# Altium integrated library Seeed-OPL-crystal-osctllator.IntLib: 61 symbols
Pins are listed as number, name and electrical type; pins without a type are passive.

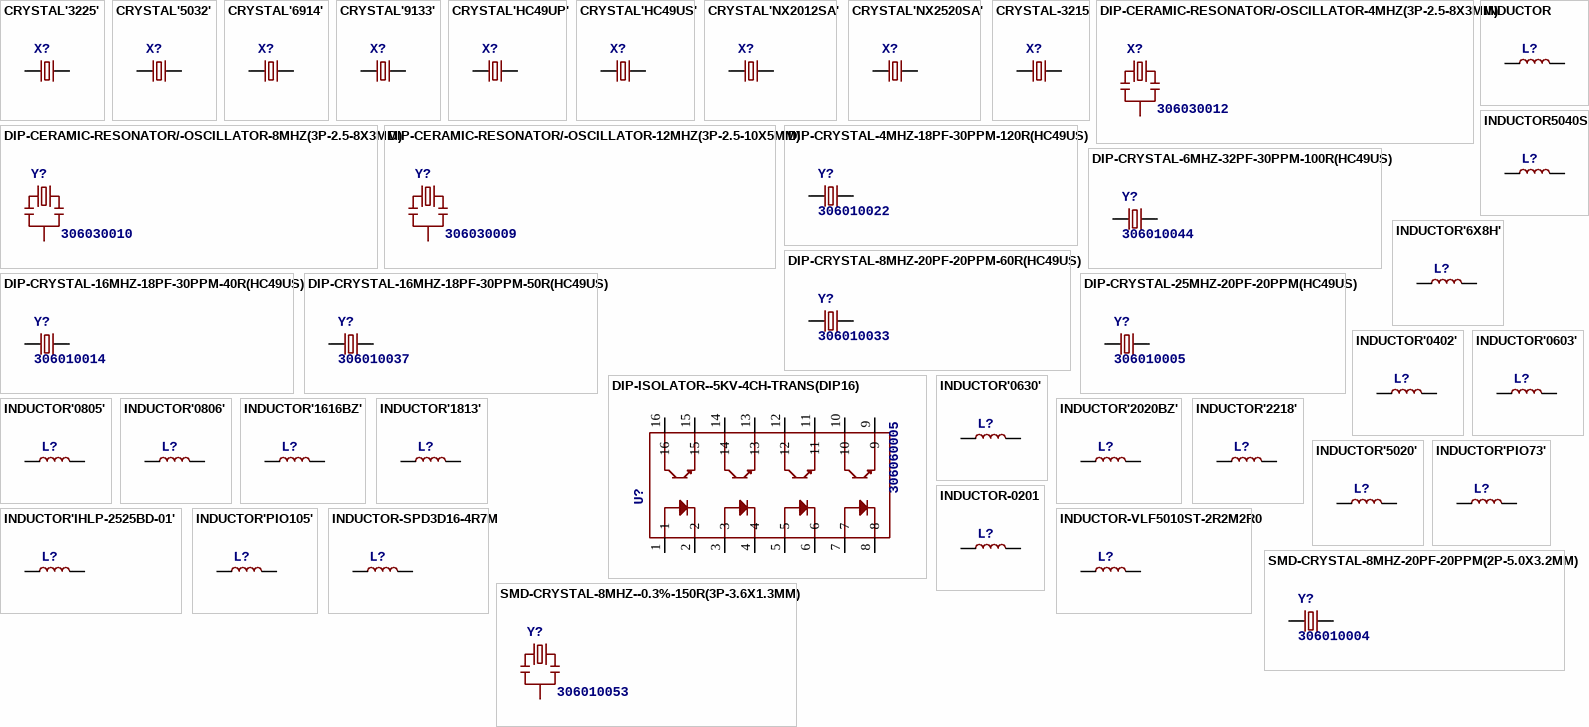
[diagram p0: symbols CRYSTAL'3225' to SMD-CRYSTAL-8MHZ--0.3%-150R(3P-3.6X1.3MM)]

## CRYSTAL'3225'
designator X?
footprint X4-SMD-3.2X2.5X0.7MM
pins: 2 1, 4 2

## CRYSTAL'5032'
designator X?
footprint X2-SMD-5.0X3.2X1.3MM
pins: 1, 2

## CRYSTAL'6914'
designator X?
footprint X4-SMD-6.9X1.4X1.3MM
pins: 1, 4 2

## CRYSTAL'9133'
designator X?
footprint X2-2.0-D9.1XL3.3MM
pins: 1, 2

## CRYSTAL'HC49UP'
designator X?
footprint HC49UP
pins: 1, 2

## CRYSTAL'HC49US'
designator X?
footprint HC49US
pins: 1, 2

## CRYSTAL'NX2012SA'
designator X?
footprint X2-SMD-L2.0X1.2X0.55MM
pins: 1, 2

## CRYSTAL'NX2520SA'
designator X?
footprint X4-SMD-2.5X2.0X0.5MM
pins: 1, 3 2

## CRYSTAL-3215
designator X?
footprint X2-SMD-3.2X1.5X0.55MM
pins: 1, 2

## DIP-CERAMIC-RESONATOR/-OSCILLATOR-4MHZ(3P-2.5-8X3MM)
designator X?, comment 306030012
footprint X3-2.5-8X3X5.5MM
pins: 1, 2, 3

## DIP-CERAMIC-RESONATOR/-OSCILLATOR-8MHZ(3P-2.5-8X3MM)
designator Y?, comment 306030010
MPN: CSTLS8M00G53Z-A0
footprint X3-2.5-8X3X5.5MM
pins: 1, 2, 3

## DIP-CERAMIC-RESONATOR/-OSCILLATOR-12MHZ(3P-2.5-10X5MM)
designator Y?, comment 306030009
MPN: ZTT-12.00MT
footprint X3-2.5-10X5X10MM
pins: 1, 2, 3

## DIP-CRYSTAL-4MHZ-18PF-30PPM-120R(HC49US)
designator Y?, comment 306010022
MPN: 49S  4  .000MHZ
footprint HC49US
pins: 1, 2

## DIP-CRYSTAL-6MHZ-32PF-30PPM-100R(HC49US)
designator Y?, comment 306010044
MPN: HC49/US
footprint HC49US
pins: 1, 2

## DIP-CRYSTAL-8MHZ-20PF-20PPM-60R(HC49US)
designator Y?, comment 306010033
MPN: 49S8M
footprint HC49US
pins: 1, 2

## DIP-CRYSTAL-16MHZ-18PF-30PPM-40R(HC49US)
designator Y?, comment 306010014
MPN: HC-49US    16.000MHz
footprint HC49US
pins: 1, 2

## DIP-CRYSTAL-16MHZ-18PF-30PPM-50R(HC49US)
designator Y?, comment 306010037
MPN: 49S/18PF
footprint HC49US
pins: 1, 2

## DIP-CRYSTAL-25MHZ-20PF-20PPM(HC49US)
designator Y?, comment 306010005
MPN: 49S
footprint HC49US
pins: 1, 2

## DIP-ISOLATOR--5KV-4CH-TRANS(DIP16)
designator U?, comment 306060005
MPN: LTV-846
footprint DIP16-2.54-19.2X7.62MM
pins: 1, 2, 3, 4, 5, 6, 7, 8, 9, 10, 11, 12, 13, 14, 15, 16

## INDUCTOR
designator L?
footprint INT2-SMD-4.8X4.8X3MM
pins: 1, 2

## INDUCTOR5040S
designator L?
footprint L5040S
pins: 1, 2

## INDUCTOR'6X8H'
designator L?
footprint INT2-3.5-D6.5XH8.0MM
pins: 1, 2

## INDUCTOR'0402'
designator L?
footprint L0402
pins: 1, 2

## INDUCTOR'0603'
designator L?
footprint L0603
pins: 1, 2

## INDUCTOR'0630'
designator L?
footprint L0630
pins: 1, 2

## INDUCTOR'0805'
designator L?
footprint L0805
pins: 1, 2

## INDUCTOR'0806'
designator L?
footprint L0806
pins: 1, 2

## INDUCTOR'1616BZ'
designator L?
footprint L1616
pins: 1, 2

## INDUCTOR'1813'
designator L?
footprint L1813
pins: 1, 2

## INDUCTOR'2020BZ'
designator L?
footprint L2020
pins: 1, 2

## INDUCTOR'2218'
designator L?
footprint L2218
pins: P$1 1, P$2 2

## INDUCTOR'5020'
designator L?
footprint L5020
pins: 1, 2

## INDUCTOR'IHLP-2525BD-01'
designator L?
footprint L2626
pins: 1, 2

## INDUCTOR'PIO73'
designator L?
footprint PIO73
pins: 1, 2

## INDUCTOR'PIO105'
designator L?
footprint PIO105
pins: 1, 2

## INDUCTOR-0201
designator L?
footprint L0201
pins: 1, 2

## INDUCTOR-SPD3D16-4R7M
designator L?
footprint L0420
pins: 1, 2

## INDUCTOR-VLF5010ST-2R2M2R0
designator L?
footprint INT2-SMD-4.8X4.6X1.0MM
pins: 1, 2

## SMD-CRYSTAL-8MHZ-20PF-20PPM(2P-5.0X3.2MM)
designator Y?, comment 306010004
MPN: 5032/2P
footprint X2-SMD-5.0X3.2X1.3MM
pins: 1, 2

## SMD-CRYSTAL-8MHZ--0.3%-150R(3P-3.6X1.3MM)
designator Y?, comment 306010053
footprint X3-SMD-3.6X1.3X0.8MM
pins: 1, 2, 3

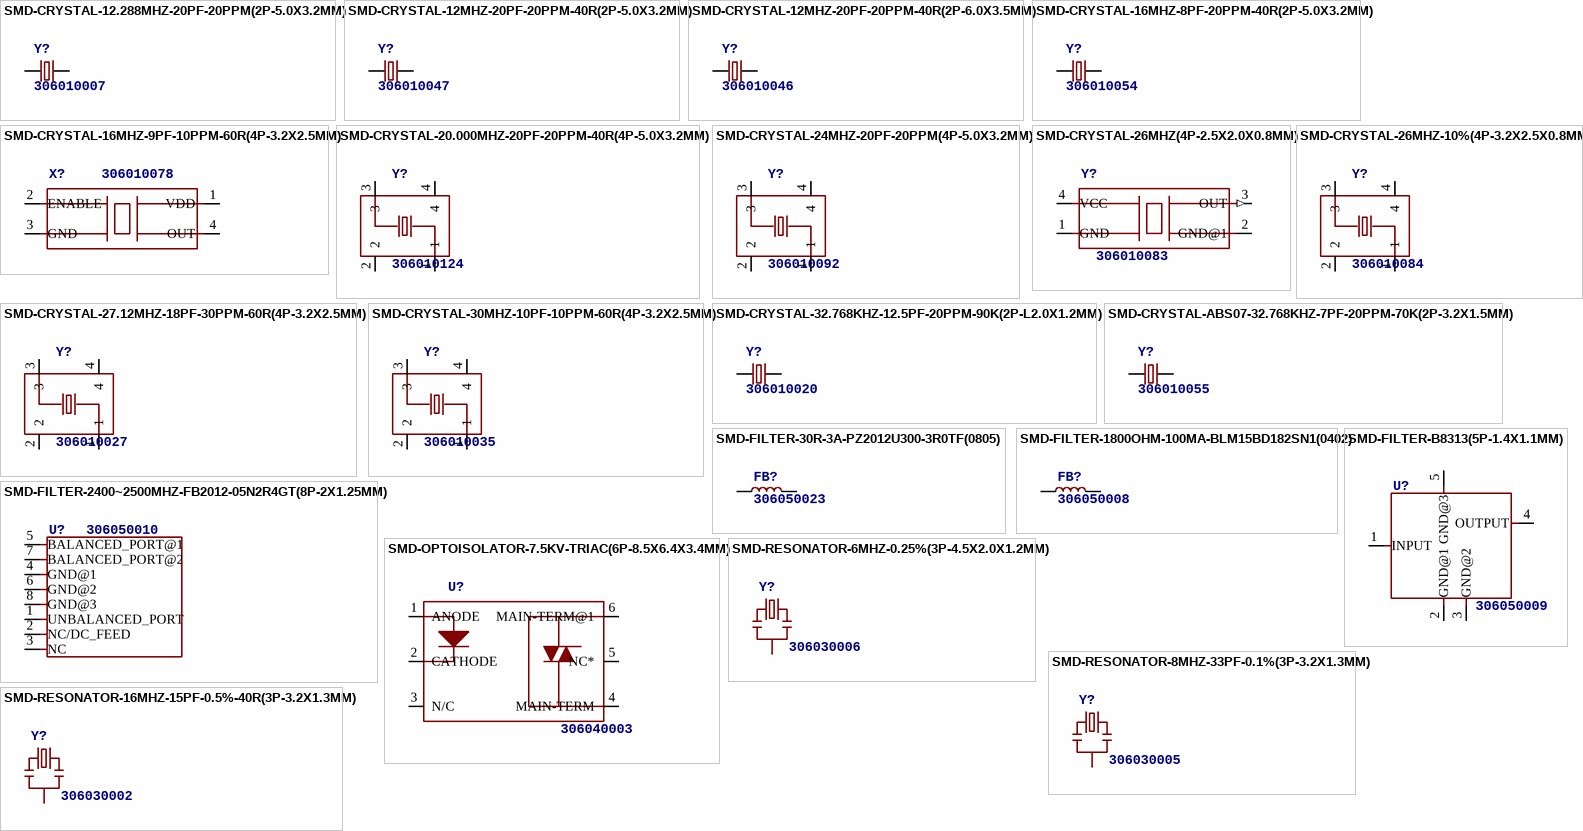
[diagram p1: symbols SMD-CRYSTAL-12.288MHZ-20PF-20PPM(2P-5.0X3.2MM) to SMD-RESONATOR-16MHZ-15PF-0.5%-40R(3P-3.2X1.3MM)]

## SMD-CRYSTAL-12.288MHZ-20PF-20PPM(2P-5.0X3.2MM)
designator Y?, comment 306010007
MPN: 5032   12.288MHz
footprint X2-SMD-5.0X3.2X1.3MM
pins: 1, 2

## SMD-CRYSTAL-12MHZ-20PF-20PPM-40R(2P-5.0X3.2MM)
designator Y?, comment 306010047
MPN: 5032/2P
footprint X2-SMD-5.0X3.2X1.3MM
pins: 1, 2

## SMD-CRYSTAL-12MHZ-20PF-20PPM-40R(2P-6.0X3.5MM)
designator Y?, comment 306010046
MPN: 6035    12.000MHz
footprint X2-SMD-6.0X3.5X1.1MM
pins: 1, 2

## SMD-CRYSTAL-16MHZ-8PF-20PPM-40R(2P-5.0X3.2MM)
designator Y?, comment 306010054
MPN: X053201602002
footprint X2-SMD-5.0X3.2X1.3MM
pins: 1, 2

## SMD-CRYSTAL-16MHZ-9PF-10PPM-60R(4P-3.2X2.5MM)
designator X?, comment 306010078
footprint X4-SMD-3.2X2.5X0.7MM
pins: 1 VDD, 2 ENABLE, 3 GND, 4 OUT

## SMD-CRYSTAL-20.000MHZ-20PF-20PPM-40R(4P-5.0X3.2MM)
designator Y?, comment 306010124
MPN: 5032   20.000MHz
footprint X4-SMD-5.0X3.2X0.7MM
pins: 1, 2, 3, 4

## SMD-CRYSTAL-24MHZ-20PF-20PPM(4P-5.0X3.2MM)
designator Y?, comment 306010092
MPN: 5032  24.000MHz
footprint X4-SMD-5.0X3.2X0.7MM
pins: 1, 2, 3, 4

## SMD-CRYSTAL-26MHZ(4P-2.5X2.0X0.8MM)
designator Y?, comment 306010083
MPN: 7L26002009
footprint X4-SMD-2.5X2.0X0.5MM
pins: 1 GND (oe), 2 GND@1 (oe), 3 OUT (out), 4 VCC (power)

## SMD-CRYSTAL-26MHZ-10%(4P-3.2X2.5X0.8MM)
designator Y?, comment 306010084
MPN: 7M26000028-TCXO
footprint X4-SMD-3.2X2.5X0.7MM
pins: 1, 2, 3, 4

## SMD-CRYSTAL-27.12MHZ-18PF-30PPM-60R(4P-3.2X2.5MM)
designator Y?, comment 306010027
MPN: 7M-27.120MAAJ-T
footprint X4-SMD-3.2X2.5X0.7MM
pins: 1, 2, 3, 4

## SMD-CRYSTAL-30MHZ-10PF-10PPM-60R(4P-3.2X2.5MM)
designator Y?, comment 306010035
MPN: 7M30000024
footprint X4-SMD-3.2X2.5X0.7MM
pins: 1, 2, 3, 4

## SMD-CRYSTAL-32.768KHZ-12.5PF-20PPM-90K(2P-L2.0X1.2MM)
designator Y?, comment 306010020
MPN: FC-12M
footprint X2-SMD-L2.0X1.2X0.55MM
pins: 1, 2

## SMD-CRYSTAL-ABS07-32.768KHZ-7PF-20PPM-70K(2P-3.2X1.5MM)
designator Y?, comment 306010055
MPN: FC-135
footprint X2-SMD-3.2X1.5X0.55MM
pins: 1, 2

## SMD-FILTER-30R-3A-PZ2012U300-3R0TF(0805)
designator FB?, comment 306050023
MPN: PZ2012U300-3R0TF
footprint L0805
pins: 1, 2

## SMD-FILTER-1800OHM-100MA-BLM15BD182SN1(0402)
designator FB?, comment 306050008
MPN: BLM15BD182SN1
footprint L0402
pins: 1, 2

## SMD-FILTER-2400~2500MHZ-FB2012-05N2R4GT(8P-2X1.25MM)
designator U?, comment 306050010
MPN: FB2012-05N2R4GT
footprint LGA8-0.65-2X1.25MM
pins: 1 UNBALANCED_PORT, 2 NC/DC_FEED, 3 NC, 4 GND@1, 5 BALANCED_PORT@1, 6 GND@2, 7 BALANCED_PORT@2, 8 GND@3

## SMD-FILTER-B8313(5P-1.4X1.1MM)
designator U?, comment 306050009
MPN: B8313
footprint LGA5-0.5-1.4X1.1MM
pins: 1 INPUT, 2 GND@1, 3 GND@2, 4 OUTPUT, 5 GND@3

## SMD-OPTOISOLATOR-7.5KV-TRIAC(6P-8.5X6.4X3.4MM)
designator U?, comment 306040003
MPN: MOC3063SR2M
footprint SOP6-2.54-8.5X6.4X3.4MM
pins: 1 ANODE, 2 CATHODE, 3 N/C, 4 MAIN-TERM, 5 NC*, 6 MAIN-TERM@1

## SMD-RESONATOR-6MHZ-0.25%(3P-4.5X2.0X1.2MM)
designator Y?, comment 306030006
MPN: CSTCR6M00G53-R0
footprint X3-SMD-4.5X2X1.2MM
pins: 1, 2, 3

## SMD-RESONATOR-8MHZ-33PF-0.1%(3P-3.2X1.3MM)
designator Y?, comment 306030005
MPN: CSTCE8M00G15L99-R0
footprint X3-SMD-3.6X1.3X0.8MM
pins: 1, 2, 3

## SMD-RESONATOR-16MHZ-15PF-0.5%-40R(3P-3.2X1.3MM)
designator Y?, comment 306030002
MPN: CSTCE16M0V53-R0
footprint X3-SMD-3.6X1.3X0.8MM
pins: 1, 2, 3